# Altium footprint library Alimentation.PcbLib: 27 footprints (part 2 of 2)
Each footprint in its own frame and in the unit in brackets; x right, y up, seen from the top. Pads: shape width x height; smd on the part's side, far side on the other; paste and mask are expansions set on the pad; w line width, h text height; cw(c..) or ccw(c..) is an arc to the next point about the centre after c.
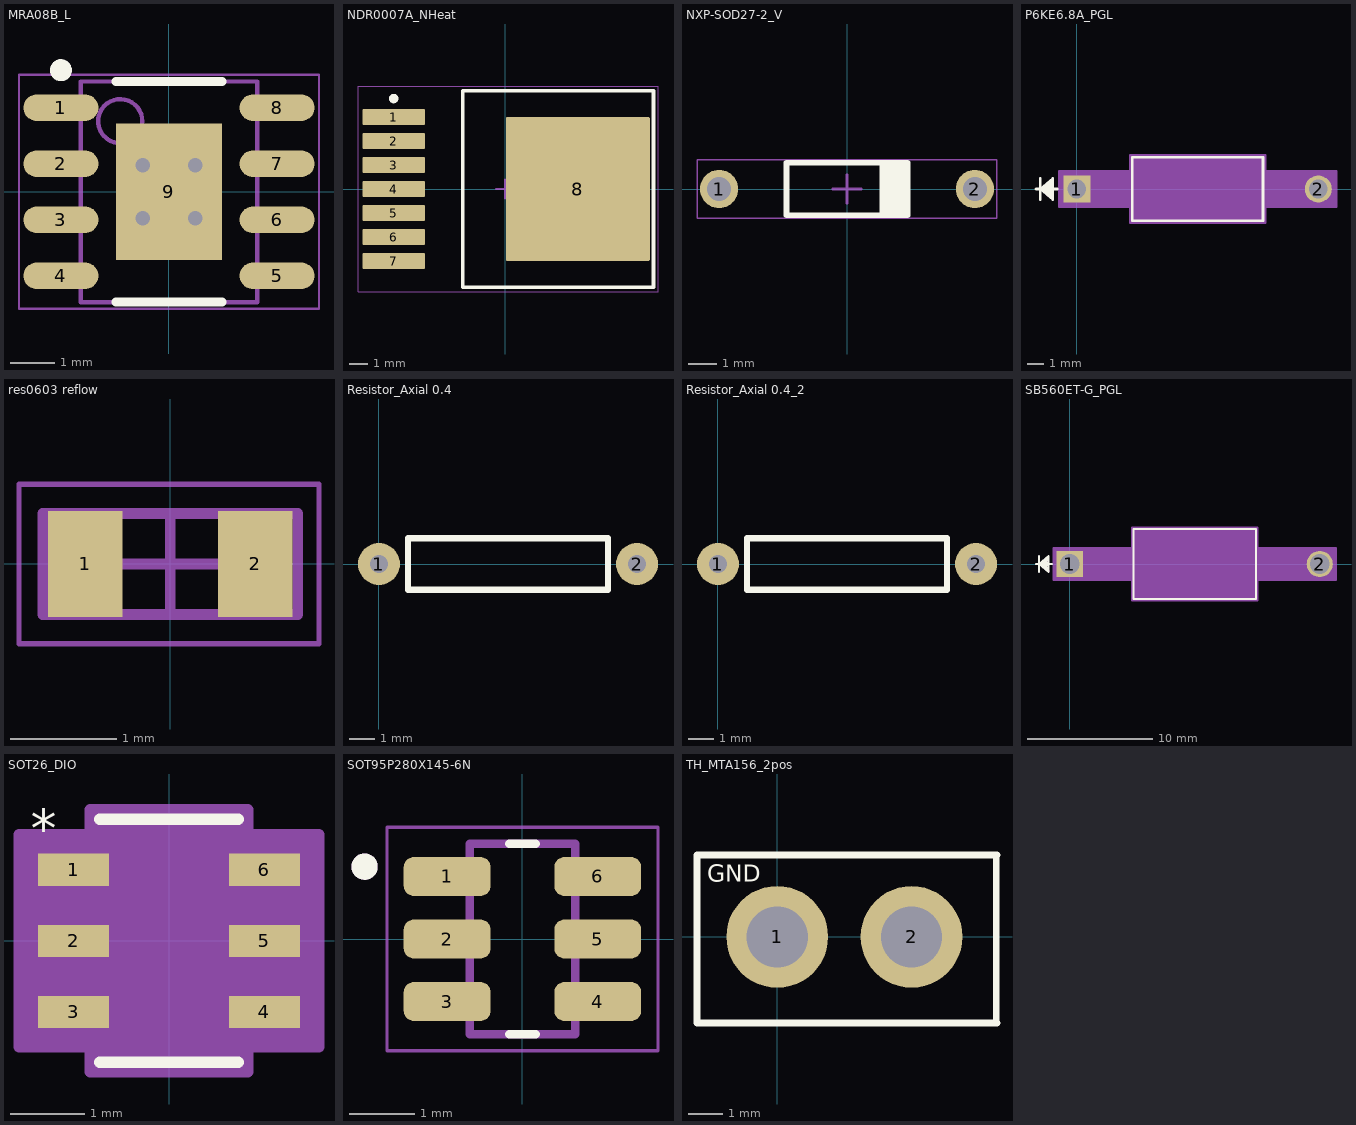
[diagram p1: the footprints below, top view; thin cyan lines are the x and y axes]

## MRA08B_L [mm] "SOIC, 8-Leads, Body 4.9x3.9mm, Pitch 1.27mm, Exposed Pad, IPC High Density"
height 1.68
pads (9):
  oval 1.7x0.6 smd: 1(-2.45,1.905) 2(-2.45,0.635) 3(-2.45,-0.635) 4(-2.45,-1.905) 5(2.45,-1.905) 6(2.45,-0.635) 7(2.45,0.635) 8(2.45,1.905)
  rect 2.41x3.1 smd: 9(0,0)
via 0.6,-0.6 diameter 0.66 hole 0.33
via -0.6,-0.6 diameter 0.66 hole 0.33
via 0.6,0.6 diameter 0.66 hole 0.33
via -0.6,0.6 diameter 0.66 hole 0.33
Top Overlay:
  circle w0.25: c-2.45,2.755 r0.125
  lines w0.2: -1.2,-2.5 1.2,-2.5 ; -1.2,2.5 1.2,2.5
Mechanical 13:
  circle w0.1: c-1.105,1.6 r0.5
  lines w0.1: -2.005,-2.5 -2.005,2.5 2.005,2.5 2.005,-2.5 -2.005,-2.5
Mechanical 15:
  lines w0.05: -3.4,-2.65 -3.4,2.65 3.4,2.65 3.4,-2.65 -3.4,-2.65
  lines w0.1: -0.5,0 0.5,0 ; 0,-0.5 0,0.5
3D body: height 1.68, standoff 0.03, extent -2.005,-2.5 2.005,2.5

## NDR0007A_NHeat [mm]
pads (8):
  rrect12% 3.3x0.85 smd: 1(-5.9,3.81) 2(-5.9,2.54) 3(-5.9,1.27) 4(-5.9,0) 5(-5.9,-1.27) 6(-5.9,-2.54) 7(-5.9,-3.81)
  rrect2% 7.62x7.62 smd: 8(3.85,0)
Top Overlay:
  circle w0.25: c-5.9,4.785 r0.125
  lines w0.2: -2.25,-5.2 7.85,-5.2 7.85,5.2 -2.25,5.2 -2.25,-5.2
Mechanical 1:
  text ".Designator" at -1.397,-0.635 h1.5
Mechanical 13:
  lines w0.1: -2.25,-5.2 7.85,-5.2 7.85,5.2 -2.25,5.2 -2.25,-5.2
Mechanical 15:
  lines w0.05: -7.787,-5.45 8.088,-5.45 8.088,5.45 -7.787,5.45 -7.787,-5.45
  lines w0.1: -0.5,0 0.5,0 ; 0,-0.5 0,0.5
3D body "NDR0007A.stp": height 2.17, standoff 0, extent -6.161,-5.08 7.85,5.08

## NXP-SOD27-2_V [mm] "SOD27, 2-Leads, Dia 1.85mm, Body Length 4.25mm, Pin Spacing 9mm"
height 1.85
pads (2):
  round 1.35 / inner round 1.35 / far side rect 1.85x1.85 hole 0.85: 1(-4.5,0) 2(4.5,0)
Top Overlay:
  rectangle: 1.143,-0.925 2.125,0.925
  lines w0.2: -2.125,-0.925 2.125,-0.925 2.125,0.925 -2.125,0.925 -2.125,-0.925
Mechanical 13:
  lines w0.1: -2.125,-0.925 -2.125,0.925 2.125,0.925 2.125,-0.925 -2.125,-0.925
Mechanical 15:
  lines w0.05: -5.275,-1.025 5.275,-1.025 5.275,1.025 -5.275,1.025 -5.275,-1.025
  lines w0.1: -0.5,0 0.5,0 ; 0,-0.5 0,0.5
3D body: height 1.2, standoff 0.64, extent 4.223,-0.279 4.78,0.279
3D body: height 1.2, standoff 0.64, extent -4.777,-0.279 -4.22,0.279
3D body: height 1.2, standoff 0.64, extent -4.5,-0.279 -2.125,0.28
3D body: height 1.2, standoff 0.64, extent 2.125,-0.279 4.5,0.279
3D body: height 0.92, standoff -2, extent 4.222,-0.279 4.78,0.28
3D body: height 0.92, standoff -2, extent -4.778,-0.279 -4.22,0.28
3D body: height 1.85, standoff 0, extent -2.125,-0.927 2.125,0.923

## P6KE6.8A_PGL [mil]
pads (2):
  rect 64x64 hole 44 paste-99999 mask+0: 1(0,0)
  round 64 hole 44 paste-99999 mask+0: 2(572,0)
Top Overlay:
  lines w6: -97,0 -47,0 ; -87,-25 -87,25 ; -57,-20 -87,0 ; -57,-15 -87,0 ; -57,-10 -87,0 ; -57,-5 -87,0 ; -57,5 -87,0 ; -57,10 -87,0 ; -57,15 -87,0 ; -57,20 -87,0 ; -87,0 -57,25 -57,-25 -87,0 ; 131,-75 441,-75 441,75 131,75 131,-75
  text ".Designator" at 130,110 h50
Mechanical 13:
  lines w1: -97,0 -47,0 ; -87,-25 -87,25 ; -57,-20 -87,0 ; -57,-15 -87,0 ; -57,-10 -87,0 ; -57,-5 -87,0 ; -57,5 -87,0 ; -57,10 -87,0 ; -57,15 -87,0 ; -57,20 -87,0 ; 0,0 136,0 ; 436,0 572,0 ; -87,0 -57,25 -57,-25 -87,0 ; 136,-70 436,-70 436,70 136,70 136,-70
Mechanical 15:
  region: 126,-42 -42,-42 -42,42 126,42 126,80 446,80 446,42 614,42 614,-42 446,-42 446,-80 126,-80
  lines w6: -42,-42 -42,42 126,42 126,80 446,80 446,42 614,42 614,-42 446,-42 446,-80 126,-80 126,-42 -42,-42

## res0603 reflow [mm] "Chip Resistor, 2-Leads, Body 2,40x0,95mm, IPC Medium Density"
height 0.6
pads (2):
  rect 0.7x1 smd: 1(-0.8,0) 2(0.8,0)
Mechanical 13:
  lines w0.1: -1.2,-0.475 1.2,-0.475 1.2,0.475 -1.2,0.475 -1.2,-0.475
Mechanical 15:
  lines w0.05: -1.425,-0.75 1.4,-0.75 1.4,0.75 -1.425,0.75 -1.425,-0.75
  lines w0.1: -0.475,0 0.475,0 ; 0,-0.475 0,0.475
3D body "User Library-SMD RESISTOR-0603.step": height 0.44, standoff -0.02, extent -0.8,-0.4 0.8,0.4

## Resistor_Axial 0.4 [mil] "Résistance 1/4 watt 0.4p"
pads (2):
  round 65 hole 27.56: 1(0,0) 2(400,0)
Top Overlay:
  lines w10: 45,-40 355,-40 355,40 45,40 45,-40
3D body "SW3dPS-RESISTOR, 0.25 W, 0.4 IN LEAD PITCH.STEP": height 115.5, standoff -100, extent -12,-45.5 412,45.5

## Resistor_Axial 0.4_2 [mil]
pads (2):
  round 65 / inner round 65 / far side rect 72.83x72.83 hole 27.56: 1(0,0) 2(400,0)
Top Overlay:
  lines w10: 45,-40 45,40 355,40 355,-40 45,-40
3D body "SW3dPS-RESISTOR, 0.25 W, 0.4 IN LEAD PITCH.STEP": height 115.5, standoff -100, extent -12,-45.5 412,45.5

## SB560ET-G_PGL [mil]
height 107.09
pads (2):
  rect 82x82 / inner round 60 / far side rect 82x82 hole 62 paste-99999 mask+0: 1(0,0)
  round 82 / inner round 60 / far side round 82 hole 62 paste-99999 mask+0: 2(783.46,0)
Top Overlay:
  lines w6: -106,0 -56,0 ; -96,-25 -96,25 ; -66,-20 -96,0 ; -66,-15 -96,0 ; -66,-10 -96,0 ; -66,-5 -96,0 ; -66,5 -96,0 ; -66,10 -96,0 ; -66,15 -96,0 ; -66,20 -96,0 ; -96,0 -66,25 -66,-25 -96,0 ; 199.23,-110 584.23,-110 584.23,110 199.23,110 199.23,-110
Mechanical 13:
  lines w1: -106,0 -56,0 ; -96,-25 -96,25 ; -66,-20 -96,0 ; -66,-15 -96,0 ; -66,-10 -96,0 ; -66,-5 -96,0 ; -66,5 -96,0 ; -66,10 -96,0 ; -66,15 -96,0 ; -66,20 -96,0 ; 0,0 204.23,0 ; 579.23,0 783.46,0 ; -96,0 -66,25 -66,-25 -96,0 ; 204.23,-105 579.23,-105 579.23,105 204.23,105 204.23,-105
Mechanical 15:
  region: 194.23,-51 -51,-51 -51,51 194.23,51 194.23,115 589.23,115 589.23,51 834.46,51 834.46,-51 589.23,-51 589.23,-115 194.23,-115
  lines w6: -51,-51 -51,51 194.23,51 194.23,115 589.23,115 589.23,51 834.46,51 834.46,-51 589.23,-51 589.23,-115 194.23,-115 194.23,-51 -51,-51
3D body "CR_SB560ET_CIP.step": height 210.04, standoff -110, extent -25.98,-104.88 809.45,104.88

## SOT26_DIO [mil]
pads (6):
  rect 37.5x17 smd paste+0 mask+0: 1(-50.25,37.4) 2(-50.25,0) 3(-50.25,-37.4) 4(50.25,-37.4) 5(50.25,0) 6(50.25,37.4)
Top Overlay:
  lines w6: -36.5,-64 36.5,-64 ; -36.5,64 36.5,64
  text "*" at -72.75,49.4 h20
Mechanical 13:
  lines w1: -12,59 ccw(c0,59) 12,59 ; -55,-44.9 -55,-29.9 -31.5,-29.9 -31.5,-44.9 -55,-44.9 ; -55,-7.5 -55,7.5 -31.5,7.5 -31.5,-7.5 -55,-7.5 ; -55,29.9 -55,44.9 -31.5,44.9 -31.5,29.9 -55,29.9 ; -31.5,-59 31.5,-59 31.5,59 -31.5,59 -31.5,-59 ; 31.5,-44.9 31.5,-29.9 55,-29.9 55,-44.9 31.5,-44.9 ; 31.5,-7.5 31.5,7.5 55,7.5 55,-7.5 31.5,-7.5 ; 31.5,29.9 31.5,44.9 55,44.9 55,29.9 31.5,29.9
  text "*" at -29,6 h20
Mechanical 15:
  region: -41.5,-55.9 -79,-55.9 -79,55.9 -41.5,55.9 -41.5,69 41.5,69 41.5,55.9 79,55.9 79,-55.9 41.5,-55.9 41.5,-69 -41.5,-69
  lines w6: -79,-55.9 -79,55.9 -41.5,55.9 -41.5,69 41.5,69 41.5,55.9 79,55.9 79,-55.9 41.5,-55.9 41.5,-69 -41.5,-69 -41.5,-55.9 -79,-55.9
3D body "SOT26_DIO.step": height 45.12, standoff 0, extent -55,-59.02 55,59.02

## SOT95P280X145-6N [mm]
height 1.45
pads (6):
  rrect50% 1.32x0.59 smd: 1(-1.145,0.95) 2(-1.145,0) 3(-1.145,-0.95) 4(1.145,-0.95) 5(1.145,0) 6(1.145,0.95)
Top Overlay:
  circle w0.2: c-2.4,1.1 r0.1
  lines w0.127: -0.2,-1.45 0.2,-1.45 ; -0.2,1.45 0.2,1.45
Mechanical 13:
  circle w0.2: c-2.4,1.1 r0.1
  lines w0.127: -0.8,-1.45 -0.8,1.45 0.8,1.45 0.8,-1.45 -0.8,-1.45
Mechanical 15:
  lines w0.05: -2.06,-1.7 -2.06,1.7 2.06,1.7 2.06,-1.7 -2.06,-1.7

## TH_MTA156_2pos [mm]
pads (2):
  round 3 hole 1.8: 1(0,0) 2(3.96,0)
Top Overlay:
  lines w0.2: 6.453,-2.54 6.453,0 6.453,2.413 ; 6.477,-2.54 -2.366,-2.54 -2.366,-1.25 -2.366,1.25 -2.366,2.413 6.477,2.413
  text "GND" at -2.059,1.624 h0.51